# Altium footprint library MCU^MPU.PcbLib: 7 footprints
Each footprint in its own frame and in the unit in brackets; x right, y up, seen from the top. Pads: shape width x height; smd on the part's side, far side on the other; paste and mask are expansions set on the pad; w line width, h text height; cw(c..) or ccw(c..) is an arc to the next point about the centre after c.
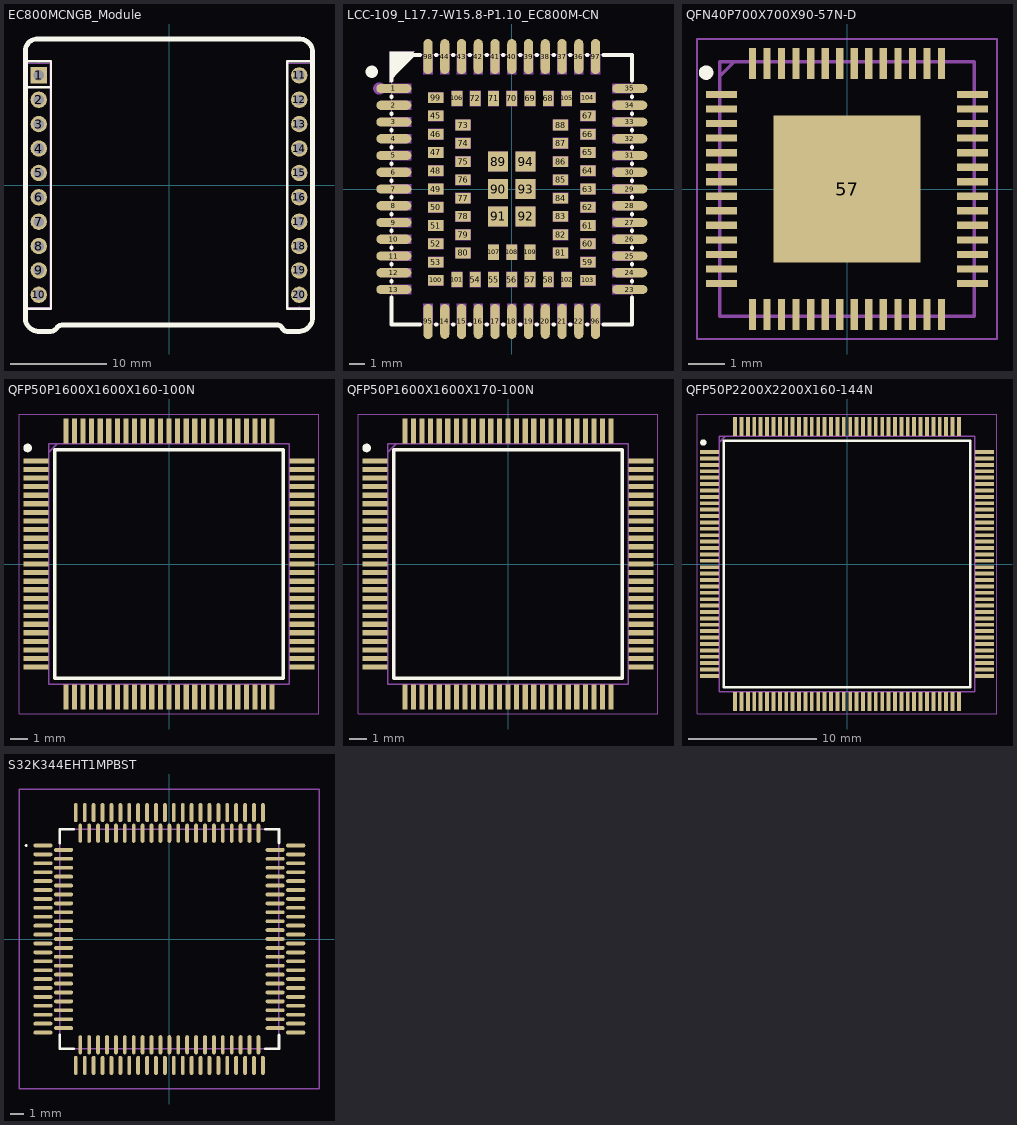
[diagram p0: the footprints below, top view; thin cyan lines are the x and y axes]

## EC800MCNGB_Module [mm]
pads (20):
  rect 1.7x1.7 hole 1.1 mask-2539.97: 1(-13.564,11.43)
  round 1.7 hole 1.1 mask-2539.97: 2(-13.564,8.89) 3(-13.564,6.35) 4(-13.564,3.81) 5(-13.564,1.27) 6(-13.564,-1.27) 7(-13.564,-3.81) 8(-13.564,-6.35) 9(-13.564,-8.89) 10(-13.564,-11.43) 11(13.564,11.43) 12(13.564,8.89) 13(13.564,6.35) 14(13.564,3.81) 15(13.564,1.27) 16(13.564,-1.27) 17(13.564,-3.81) 18(13.564,-6.35) 19(13.564,-8.89) 20(13.564,-11.43)
Top Overlay:
  lines w0.254: -14.834,-12.954 -14.834,12.9 -12.294,12.9 -12.294,-12.9 -14.834,-12.9 ; -14.834,10.169 -12.294,10.169 ; 14.834,12.9 12.294,12.9 12.294,-12.9 14.834,-12.9 14.834,12.954
  lines w0.508: -14.961,-13.741 ccw(c-13.564,-13.843) -13.665,-15.24 -12.345,-15.24 -12.324,-15.24 ccw(c-12.345,-14.473) -11.69,-14.872 -11.689,-14.861 cw(c-11.112,-15.304) -11.049,-14.58 11.273,-14.58 cw(c11.304,-15.105) 11.783,-14.886 11.782,-14.887 ccw(c12.345,-14.621) 12.277,-15.24 13.589,-15.24 ccw(c13.525,-13.805) 14.961,-13.741 14.961,13.792 ccw(c13.589,13.843) 13.64,15.215 -13.792,15.215 ccw(c-13.741,13.995) -14.961,13.945 -14.961,-13.741
Top Solder:
  circle w0.889: c13.564,11.43 r0.445
  circle w0.889: c13.564,-8.89 r0.445
  circle w0.889: c13.564,-6.35 r0.445
  circle w0.889: c13.564,-3.81 r0.445
  circle w0.889: c13.564,-1.27 r0.445
  circle w0.889: c13.564,1.27 r0.445
  circle w0.889: c13.564,3.81 r0.445
  circle w0.889: c13.564,6.35 r0.445
  circle w0.889: c13.564,8.89 r0.445
  circle w0.889: c13.564,-11.43 r0.445
  circle w0.889: c-13.564,8.89 r0.445
  circle w0.889: c-13.564,6.35 r0.445
  circle w0.889: c-13.564,3.81 r0.445
  circle w0.889: c-13.564,1.27 r0.445
  circle w0.889: c-13.564,-1.27 r0.445
  circle w0.889: c-13.564,-3.81 r0.445
  circle w0.889: c-13.564,-6.35 r0.445
  circle w0.889: c-13.564,-8.89 r0.445
  circle w0.889: c-13.564,-11.43 r0.445
  region: -14.453,10.541 -14.453,12.319 -12.675,12.319 -12.675,10.541
Bottom Solder:
  circle w0.889: c13.564,11.43 r0.445
  circle w0.889: c13.564,-8.89 r0.445
  circle w0.889: c13.564,-6.35 r0.445
  circle w0.889: c13.564,-3.81 r0.445
  circle w0.889: c13.564,-1.27 r0.445
  circle w0.889: c13.564,1.27 r0.445
  circle w0.889: c13.564,3.81 r0.445
  circle w0.889: c13.564,6.35 r0.445
  circle w0.889: c13.564,8.89 r0.445
  circle w0.889: c13.564,-11.43 r0.445
  circle w0.889: c-13.564,8.89 r0.445
  circle w0.889: c-13.564,6.35 r0.445
  circle w0.889: c-13.564,3.81 r0.445
  circle w0.889: c-13.564,1.27 r0.445
  circle w0.889: c-13.564,-1.27 r0.445
  circle w0.889: c-13.564,-3.81 r0.445
  circle w0.889: c-13.564,-6.35 r0.445
  circle w0.889: c-13.564,-8.89 r0.445
  circle w0.889: c-13.564,-11.43 r0.445
  region: -14.453,10.541 -14.453,12.319 -12.675,12.319 -12.675,10.541
Mechanical 15:
  region: 13.764,-11.75 13.364,-11.75 13.364,-11.11 13.764,-11.11
  region: 13.364,-9.21 13.364,-8.57 13.764,-8.57 13.764,-9.21
  region: 13.364,-6.67 13.364,-6.03 13.764,-6.03 13.764,-6.67
  region: 13.364,-4.13 13.364,-3.49 13.764,-3.49 13.764,-4.13
  region: 13.364,-1.59 13.364,-0.95 13.764,-0.95 13.764,-1.59
  region: 13.364,0.95 13.364,1.59 13.764,1.59 13.764,0.95
  region: 13.364,3.49 13.364,4.13 13.764,4.13 13.764,3.49
  region: 13.364,6.03 13.364,6.67 13.764,6.67 13.764,6.03
  region: 13.364,8.57 13.364,9.21 13.764,9.21 13.764,8.57
  region: 13.364,11.11 13.364,11.75 13.764,11.75 13.764,11.11
  region: 13.564,-12.64 13.539,-12.64 13.504,-12.675 13.504,-12.725 13.539,-12.76 13.564,-12.76 13.588,-12.76 13.624,-12.725 13.624,-12.675 13.588,-12.64 13.564,-12.64
  region: -13.764,11.75 -13.364,11.75 -13.364,11.11 -13.764,11.11
  region: -13.364,9.21 -13.364,8.57 -13.764,8.57 -13.764,9.21
  region: -13.364,6.67 -13.364,6.03 -13.764,6.03 -13.764,6.67
  region: -13.364,4.13 -13.364,3.49 -13.764,3.49 -13.764,4.13
  region: -13.364,1.59 -13.364,0.95 -13.764,0.95 -13.764,1.59
  region: -13.364,-0.95 -13.364,-1.59 -13.764,-1.59 -13.764,-0.95
  region: -13.364,-3.49 -13.364,-4.13 -13.764,-4.13 -13.764,-3.49
  region: -13.364,-6.03 -13.364,-6.67 -13.764,-6.67 -13.764,-6.03
  region: -13.364,-8.57 -13.364,-9.21 -13.764,-9.21 -13.764,-8.57
  region: -13.364,-11.11 -13.364,-11.75 -13.764,-11.75 -13.764,-11.11
  region: -13.564,12.64 -13.539,12.64 -13.504,12.675 -13.504,12.725 -13.539,12.76 -13.564,12.76 -13.588,12.76 -13.624,12.725 -13.624,12.675 -13.588,12.64 -13.564,12.64
  lines w0.051: -14.764,-12.7 -14.764,12.7 -12.364,12.7 -12.364,-12.7 -13.564,-12.7 -14.764,-12.7 ; 12.364,-12.7 12.364,12.7 13.564,12.7 14.764,12.7 14.764,-12.7 12.364,-12.7

## LCC-109_L17.7-W15.8-P1.10_EC800M-CN [mm]
pads (109):
  oval 2.3x0.6 smd: 1(-7.75,6.6) 2(-7.75,5.5) 3(-7.75,4.4) 4(-7.75,3.3) 5(-7.75,2.2) 6(-7.75,1.1) 7(-7.75,0) 8(-7.75,-1.1) 9(-7.75,-2.2) 10(-7.75,-3.3) 11(-7.75,-4.4) 12(-7.75,-5.5) 13(-7.75,-6.6) 23(7.75,-6.6) 24(7.75,-5.5) 25(7.75,-4.4) 26(7.75,-3.3) 27(7.75,-2.2) 28(7.75,-1.1) 29(7.75,0) 30(7.75,1.1) 31(7.75,2.2) 32(7.75,3.3) 33(7.75,4.4) 34(7.75,5.5) 35(7.75,6.6)
  oval 0.6x2.3 smd: 14(-4.4,-8.7) 15(-3.3,-8.7) 16(-2.2,-8.7) 17(-1.1,-8.7) 18(0,-8.7) 19(1.1,-8.7) 20(2.2,-8.7) 21(3.3,-8.7) 22(4.4,-8.7) 36(4.4,8.7) 37(3.3,8.7) 38(2.2,8.7) 39(1.1,8.7) 40(0,8.7) 41(-1.1,8.7) 42(-2.2,8.7) 43(-3.3,8.7) 44(-4.4,8.7) 95(-5.5,-8.7) 96(5.5,-8.7) 97(5.5,8.7) 98(-5.5,8.7)
  rect 1x0.7 smd: 45(-5,4.8) 46(-5,3.6) 47(-5,2.4) 48(-5,1.2) 49(-5,0) 50(-5,-1.2) 51(-5,-2.4) 52(-5,-3.6) 53(-5,-4.8) 59(5,-4.8) 60(5,-3.6) 61(5,-2.4) 62(5,-1.2) 63(5,0) 64(5,1.2) 65(5,2.4) 66(5,3.6) 67(5,4.8) 73(-3.2,4.2) 74(-3.2,3) 75(-3.2,1.8) 76(-3.2,0.6) 77(-3.2,-0.6) 78(-3.2,-1.8) 79(-3.2,-3) 80(-3.2,-4.2) 81(3.2,-4.2) 82(3.2,-3) 83(3.2,-1.8) 84(3.2,-0.6) 85(3.2,0.6) 86(3.2,1.8) 87(3.2,3) 88(3.2,4.2) 99(-5,6) 100(-5,-6) 103(5,-6) 104(5,6)
  rect 0.7x1 smd: 54(-2.4,-5.95) 55(-1.2,-5.95) 56(0,-5.95) 57(1.2,-5.95) 58(2.4,-5.95) 68(2.4,5.95) 69(1.2,5.95) 70(0,5.95) 71(-1.2,5.95) 72(-2.4,5.95) 101(-3.6,-5.95) 102(3.6,-5.95) 105(3.6,5.95) 106(-3.6,5.95) 107(-1.2,-4.15) 108(0,-4.15) 109(1.2,-4.15)
  rect 1.3x1.3 smd: 89(-0.9,1.8) 90(-0.9,0) 91(-0.9,-1.8) 92(0.9,-1.8) 93(0.9,0) 94(0.9,1.8)
Top Overlay:
  circle w0.4: c-9.2,7.7 r0.2
  region: -6.4,9 -8,9 -8,7
  lines w0.254: -7.9,-7.131 -7.9,-8.9 -6.031,-8.9 ; -7.9,-6.069 -7.9,-6.031 ; -7.9,-4.969 -7.9,-4.931 ; -7.9,-3.869 -7.9,-3.831 ; -7.9,-2.769 -7.9,-2.731 ; -7.9,-1.669 -7.9,-1.631 ; -7.9,-0.569 -7.9,-0.531 ; -7.9,0.531 -7.9,0.569 ; -7.9,1.631 -7.9,1.669 ; -7.9,2.731 -7.9,2.769 ; -7.9,3.831 -7.9,3.869 ; -7.9,4.931 -7.9,4.969 ; -7.9,6.031 -7.9,6.069 ; -7.9,7.131 -7.9,7.4 -6.5,8.8 -6.031,8.8 ; -4.969,-8.9 -4.931,-8.9 ; -4.969,8.8 -4.931,8.8 ; -3.869,-8.9 -3.831,-8.9 ; -3.869,8.8 -3.831,8.8 ; -2.769,-8.9 -2.731,-8.9 ; -2.769,8.8 -2.731,8.8 ; -1.669,-8.9 -1.631,-8.9 ; -1.669,8.8 -1.631,8.8 ; -0.569,-8.9 -0.531,-8.9 ; -0.569,8.8 -0.531,8.8 ; 0.531,-8.9 0.569,-8.9 ; 0.531,8.8 0.569,8.8 ; 1.631,-8.9 1.669,-8.9 ; 1.631,8.8 1.669,8.8 ; 2.731,-8.9 2.769,-8.9 ; 2.731,8.8 2.769,8.8 ; 3.831,-8.9 3.869,-8.9 ; 3.831,8.8 3.869,8.8 ; 4.931,-8.9 4.969,-8.9 ; 4.931,8.8 4.969,8.8 ; 6.031,-8.9 7.9,-8.9 7.9,-7.131 ; 6.031,8.8 7.9,8.8 ; 7.9,-6.069 7.9,-6.031 ; 7.9,-4.969 7.9,-4.931 ; 7.9,-3.869 7.9,-3.831 ; 7.9,-2.769 7.9,-2.731 ; 7.9,-1.669 7.9,-1.631 ; 7.9,-0.569 7.9,-0.531 ; 7.9,0.531 7.9,0.569 ; 7.9,1.631 7.9,1.669 ; 7.9,2.731 7.9,2.769 ; 7.9,3.831 7.9,3.869 ; 7.9,4.931 7.9,4.969 ; 7.9,6.031 7.9,6.069 ; 7.9,7.131 7.9,8.7
Mechanical 6:
  circle w0.4: c-8.7,6.6 r0.2
  region: -6.4,9 -8,9 -8,7
Mechanical 15:
  drawing of 114 lines, arcs and shapes, not listed

## QFN40P700X700X90-57N-D [mm]
pads (57):
  rect 0.85x0.2 smd: 1(-3.45,2.6) 2(-3.45,2.2) 3(-3.45,1.8) 4(-3.45,1.4) 5(-3.45,1) 6(-3.45,0.6) 7(-3.45,0.2) 8(-3.45,-0.2) 9(-3.45,-0.6) 10(-3.45,-1) 11(-3.45,-1.4) 12(-3.45,-1.8) 13(-3.45,-2.2) 14(-3.45,-2.6) 29(3.45,-2.6) 30(3.45,-2.2) 31(3.45,-1.8) 32(3.45,-1.4) 33(3.45,-1) 34(3.45,-0.6) 35(3.45,-0.2) 36(3.45,0.2) 37(3.45,0.6) 38(3.45,1) 39(3.45,1.4) 40(3.45,1.8) 41(3.45,2.2) 42(3.45,2.6)
  rect 0.2x0.85 smd: 15(-2.6,-3.45) 16(-2.2,-3.45) 17(-1.8,-3.45) 18(-1.4,-3.45) 19(-1,-3.45) 20(-0.6,-3.45) 21(-0.2,-3.45) 22(0.2,-3.45) 23(0.6,-3.45) 24(1,-3.45) 25(1.4,-3.45) 26(1.8,-3.45) 27(2.2,-3.45) 28(2.6,-3.45) 43(2.6,3.45) 44(2.2,3.45) 45(1.8,3.45) 46(1.4,3.45) 47(1,3.45) 48(0.6,3.45) 49(0.2,3.45) 50(-0.2,3.45) 51(-0.6,3.45) 52(-1,3.45) 53(-1.4,3.45) 54(-1.8,3.45) 55(-2.2,3.45) 56(-2.6,3.45)
  rect 4.05x4.05 smd: 57(0,0)
Top Overlay:
  circle w0.2: c-3.875,3.2 r0.1
Mechanical 13:
  lines w0.1: -3.5,3.1 -3.1,3.5 ; -3.5,-3.5 -3.5,3.5 3.5,3.5 3.5,-3.5 -3.5,-3.5
Mechanical 15:
  lines w0.05: -4.125,-4.125 -4.125,4.125 4.125,4.125 4.125,-4.125 -4.125,-4.125
3D body "ESP32-S3FH4R2.stp": height 0.9, standoff 0, extent -3.55,-3.55 3.55,3.55

## QFP50P1600X1600X160-100N [mm]
pads (100):
  rect 1.475x0.3 smd: 1(-7.738,6) 2(-7.738,5.5) 3(-7.738,5) 4(-7.738,4.5) 5(-7.738,4) 6(-7.738,3.5) 7(-7.738,3) 8(-7.738,2.5) 9(-7.738,2) 10(-7.738,1.5) 11(-7.738,1) 12(-7.738,0.5) 13(-7.738,0) 14(-7.738,-0.5) 15(-7.738,-1) 16(-7.738,-1.5) 17(-7.738,-2) 18(-7.738,-2.5) 19(-7.738,-3) 20(-7.738,-3.5) 21(-7.738,-4) 22(-7.738,-4.5) 23(-7.738,-5) 24(-7.738,-5.5) 25(-7.738,-6) 51(7.738,-6) 52(7.738,-5.5) 53(7.738,-5) 54(7.738,-4.5) 55(7.738,-4) 56(7.738,-3.5) 57(7.738,-3) 58(7.738,-2.5) 59(7.738,-2) 60(7.738,-1.5) 61(7.738,-1) 62(7.738,-0.5) 63(7.738,0) 64(7.738,0.5) 65(7.738,1) 66(7.738,1.5) 67(7.738,2) 68(7.738,2.5) 69(7.738,3) 70(7.738,3.5) 71(7.738,4) 72(7.738,4.5) 73(7.738,5) 74(7.738,5.5) 75(7.738,6)
  rect 0.3x1.475 smd: 26(-6,-7.738) 27(-5.5,-7.738) 28(-5,-7.738) 29(-4.5,-7.738) 30(-4,-7.738) 31(-3.5,-7.738) 32(-3,-7.738) 33(-2.5,-7.738) 34(-2,-7.738) 35(-1.5,-7.738) 36(-1,-7.738) 37(-0.5,-7.738) 38(0,-7.738) 39(0.5,-7.738) 40(1,-7.738) 41(1.5,-7.738) 42(2,-7.738) 43(2.5,-7.738) 44(3,-7.738) 45(3.5,-7.738) 46(4,-7.738) 47(4.5,-7.738) 48(5,-7.738) 49(5.5,-7.738) 50(6,-7.738) 76(6,7.738) 77(5.5,7.738) 78(5,7.738) 79(4.5,7.738) 80(4,7.738) 81(3.5,7.738) 82(3,7.738) 83(2.5,7.738) 84(2,7.738) 85(1.5,7.738) 86(1,7.738) 87(0.5,7.738) 88(0,7.738) 89(-0.5,7.738) 90(-1,7.738) 91(-1.5,7.738) 92(-2,7.738) 93(-2.5,7.738) 94(-3,7.738) 95(-3.5,7.738) 96(-4,7.738) 97(-4.5,7.738) 98(-5,7.738) 99(-5.5,7.738) 100(-6,7.738)
Top Overlay:
  circle w0.25: c-8.225,6.75 r0.125
  lines w0.2: -6.65,-6.65 -6.65,6.65 6.65,6.65 6.65,-6.65 -6.65,-6.65
Mechanical 13:
  lines w0.1: -7,6.5 -6.5,7 ; -7,-7 -7,7 7,7 7,-7 -7,-7
Mechanical 15:
  lines w0.05: -8.725,-8.725 -8.725,8.725 8.725,8.725 8.725,-8.725 -8.725,-8.725
3D body "STM32H750VBT6.stp": height 1.6, standoff 0, extent -8,-8 8,8

## QFP50P1600X1600X170-100N [mm]
pads (100):
  rect 1.475x0.3 smd: 1(-7.738,6) 2(-7.738,5.5) 3(-7.738,5) 4(-7.738,4.5) 5(-7.738,4) 6(-7.738,3.5) 7(-7.738,3) 8(-7.738,2.5) 9(-7.738,2) 10(-7.738,1.5) 11(-7.738,1) 12(-7.738,0.5) 13(-7.738,0) 14(-7.738,-0.5) 15(-7.738,-1) 16(-7.738,-1.5) 17(-7.738,-2) 18(-7.738,-2.5) 19(-7.738,-3) 20(-7.738,-3.5) 21(-7.738,-4) 22(-7.738,-4.5) 23(-7.738,-5) 24(-7.738,-5.5) 25(-7.738,-6) 51(7.738,-6) 52(7.738,-5.5) 53(7.738,-5) 54(7.738,-4.5) 55(7.738,-4) 56(7.738,-3.5) 57(7.738,-3) 58(7.738,-2.5) 59(7.738,-2) 60(7.738,-1.5) 61(7.738,-1) 62(7.738,-0.5) 63(7.738,0) 64(7.738,0.5) 65(7.738,1) 66(7.738,1.5) 67(7.738,2) 68(7.738,2.5) 69(7.738,3) 70(7.738,3.5) 71(7.738,4) 72(7.738,4.5) 73(7.738,5) 74(7.738,5.5) 75(7.738,6)
  rect 0.3x1.475 smd: 26(-6,-7.738) 27(-5.5,-7.738) 28(-5,-7.738) 29(-4.5,-7.738) 30(-4,-7.738) 31(-3.5,-7.738) 32(-3,-7.738) 33(-2.5,-7.738) 34(-2,-7.738) 35(-1.5,-7.738) 36(-1,-7.738) 37(-0.5,-7.738) 38(0,-7.738) 39(0.5,-7.738) 40(1,-7.738) 41(1.5,-7.738) 42(2,-7.738) 43(2.5,-7.738) 44(3,-7.738) 45(3.5,-7.738) 46(4,-7.738) 47(4.5,-7.738) 48(5,-7.738) 49(5.5,-7.738) 50(6,-7.738) 76(6,7.738) 77(5.5,7.738) 78(5,7.738) 79(4.5,7.738) 80(4,7.738) 81(3.5,7.738) 82(3,7.738) 83(2.5,7.738) 84(2,7.738) 85(1.5,7.738) 86(1,7.738) 87(0.5,7.738) 88(0,7.738) 89(-0.5,7.738) 90(-1,7.738) 91(-1.5,7.738) 92(-2,7.738) 93(-2.5,7.738) 94(-3,7.738) 95(-3.5,7.738) 96(-4,7.738) 97(-4.5,7.738) 98(-5,7.738) 99(-5.5,7.738) 100(-6,7.738)
Top Overlay:
  circle w0.25: c-8.225,6.75 r0.125
  lines w0.2: -6.65,-6.65 6.65,-6.65 6.65,6.65 -6.65,6.65 -6.65,-6.65
Mechanical 13:
  lines w0.1: -7,6.5 -6.5,7 ; -7,-7 7,-7 7,7 -7,7 -7,-7
Mechanical 15:
  lines w0.05: -8.725,-8.725 8.725,-8.725 8.725,8.725 -8.725,8.725 -8.725,-8.725
3D body "FS32K144UAT0VLLT.stp": height 1.7, standoff 0, extent -8,-8 8,8

## QFP50P2200X2200X160-144N [mm]
pads (144):
  rect 1.475x0.3 smd: 1(-10.738,8.75) 2(-10.738,8.25) 3(-10.738,7.75) 4(-10.738,7.25) 5(-10.738,6.75) 6(-10.738,6.25) 7(-10.738,5.75) 8(-10.738,5.25) 9(-10.738,4.75) 10(-10.738,4.25) 11(-10.738,3.75) 12(-10.738,3.25) 13(-10.738,2.75) 14(-10.738,2.25) 15(-10.738,1.75) 16(-10.738,1.25) 17(-10.738,0.75) 18(-10.738,0.25) 19(-10.738,-0.25) 20(-10.738,-0.75) 21(-10.738,-1.25) 22(-10.738,-1.75) 23(-10.738,-2.25) 24(-10.738,-2.75) 25(-10.738,-3.25) 26(-10.738,-3.75) 27(-10.738,-4.25) 28(-10.738,-4.75) 29(-10.738,-5.25) 30(-10.738,-5.75) 31(-10.738,-6.25) 32(-10.738,-6.75) 33(-10.738,-7.25) 34(-10.738,-7.75) 35(-10.738,-8.25) 36(-10.738,-8.75) 73(10.738,-8.75) 74(10.738,-8.25) 75(10.738,-7.75) 76(10.738,-7.25) 77(10.738,-6.75) 78(10.738,-6.25) 79(10.738,-5.75) 80(10.738,-5.25) 81(10.738,-4.75) 82(10.738,-4.25) 83(10.738,-3.75) 84(10.738,-3.25) 85(10.738,-2.75) 86(10.738,-2.25) 87(10.738,-1.75) 88(10.738,-1.25) 89(10.738,-0.75) 90(10.738,-0.25) 91(10.738,0.25) 92(10.738,0.75) 93(10.738,1.25) 94(10.738,1.75) 95(10.738,2.25) 96(10.738,2.75) 97(10.738,3.25) 98(10.738,3.75) 99(10.738,4.25) 100(10.738,4.75) 101(10.738,5.25) 102(10.738,5.75) 103(10.738,6.25) 104(10.738,6.75) 105(10.738,7.25) 106(10.738,7.75) 107(10.738,8.25) 108(10.738,8.75)
  rect 0.3x1.475 smd: 37(-8.75,-10.738) 38(-8.25,-10.738) 39(-7.75,-10.738) 40(-7.25,-10.738) 41(-6.75,-10.738) 42(-6.25,-10.738) 43(-5.75,-10.738) 44(-5.25,-10.738) 45(-4.75,-10.738) 46(-4.25,-10.738) 47(-3.75,-10.738) 48(-3.25,-10.738) 49(-2.75,-10.738) 50(-2.25,-10.738) 51(-1.75,-10.738) 52(-1.25,-10.738) 53(-0.75,-10.738) 54(-0.25,-10.738) 55(0.25,-10.738) 56(0.75,-10.738) 57(1.25,-10.738) 58(1.75,-10.738) 59(2.25,-10.738) 60(2.75,-10.738) 61(3.25,-10.738) 62(3.75,-10.738) 63(4.25,-10.738) 64(4.75,-10.738) 65(5.25,-10.738) 66(5.75,-10.738) 67(6.25,-10.738) 68(6.75,-10.738) 69(7.25,-10.738) 70(7.75,-10.738) 71(8.25,-10.738) 72(8.75,-10.738) 109(8.75,10.738) 110(8.25,10.738) 111(7.75,10.738) 112(7.25,10.738) 113(6.75,10.738) 114(6.25,10.738) 115(5.75,10.738) 116(5.25,10.738) 117(4.75,10.738) 118(4.25,10.738) 119(3.75,10.738) 120(3.25,10.738) 121(2.75,10.738) 122(2.25,10.738) 123(1.75,10.738) 124(1.25,10.738) 125(0.75,10.738) 126(0.25,10.738) 127(-0.25,10.738) 128(-0.75,10.738) 129(-1.25,10.738) 130(-1.75,10.738) 131(-2.25,10.738) 132(-2.75,10.738) 133(-3.25,10.738) 134(-3.75,10.738) 135(-4.25,10.738) 136(-4.75,10.738) 137(-5.25,10.738) 138(-5.75,10.738) 139(-6.25,10.738) 140(-6.75,10.738) 141(-7.25,10.738) 142(-7.75,10.738) 143(-8.25,10.738) 144(-8.75,10.738)
Top Overlay:
  circle w0.25: c-11.225,9.5 r0.125
  lines w0.2: -9.65,-9.65 9.65,-9.65 9.65,9.65 -9.65,9.65 -9.65,-9.65
Mechanical 13:
  lines w0.1: -10,9.5 -9.5,10 ; -10,-10 10,-10 10,10 -10,10 -10,-10
Mechanical 15:
  lines w0.05: -11.725,-11.725 11.725,-11.725 11.725,11.725 -11.725,11.725 -11.725,-11.725
3D body "FS32K148HET0MLQT.stp": height 1.6, standoff 0, extent -11,-11 11,11

## S32K344EHT1MPBST [mm]
pads (172):
  rrect100% 1.4x0.28 smd: 1(-9.22,6.825) 2(-7.72,6.5) 3(-9.22,6.175) 4(-7.72,5.85) 5(-9.22,5.525) 6(-7.72,5.2) 7(-9.22,4.875) 8(-7.72,4.55) 9(-9.22,4.225) 10(-7.72,3.9) 11(-9.22,3.575) 12(-7.72,3.25) 13(-9.22,2.925) 14(-7.72,2.6) 15(-9.22,2.275) 16(-7.72,1.95) 17(-9.22,1.625) 18(-7.72,1.3) 19(-9.22,0.975) 20(-7.72,0.65) 21(-9.22,0.325) 22(-7.72,0) 23(-9.22,-0.325) 24(-7.72,-0.65) 25(-9.22,-0.975) 26(-7.72,-1.3) 27(-9.22,-1.625) 28(-7.72,-1.95) 29(-9.22,-2.275) 30(-7.72,-2.6) 31(-9.22,-2.925) 32(-7.72,-3.25) 33(-9.22,-3.575) 34(-7.72,-3.9) 35(-9.22,-4.225) 36(-7.72,-4.55) 37(-9.22,-4.875) 38(-7.72,-5.2) 39(-9.22,-5.525) 40(-7.72,-5.85) 41(-9.22,-6.175) 42(-7.72,-6.5) 43(-9.22,-6.825) 87(9.22,-6.825) 88(7.72,-6.5) 89(9.22,-6.175) 90(7.72,-5.85) 91(9.22,-5.525) 92(7.72,-5.2) 93(9.22,-4.875) 94(7.72,-4.55) 95(9.22,-4.225) 96(7.72,-3.9) 97(9.22,-3.575) 98(7.72,-3.25) 99(9.22,-2.925) 100(7.72,-2.6) 101(9.22,-2.275) 102(7.72,-1.95) 103(9.22,-1.625) 104(7.72,-1.3) 105(9.22,-0.975) 106(7.72,-0.65) 107(9.22,-0.325) 108(7.72,0) 109(9.22,0.325) 110(7.72,0.65) 111(9.22,0.975) 112(7.72,1.3) 113(9.22,1.625) 114(7.72,1.95) 115(9.22,2.275) 116(7.72,2.6) 117(9.22,2.925) 118(7.72,3.25) 119(9.22,3.575) 120(7.72,3.9) 121(9.22,4.225) 122(7.72,4.55) 123(9.22,4.875) 124(7.72,5.2) 125(9.22,5.525) 126(7.72,5.85) 127(9.22,6.175) 128(7.72,6.5) 129(9.22,6.825)
  rrect100% 0.28x1.4 smd: 44(-6.825,-9.22) 45(-6.5,-7.72) 46(-6.175,-9.22) 47(-5.85,-7.72) 48(-5.525,-9.22) 49(-5.2,-7.72) 50(-4.875,-9.22) 51(-4.55,-7.72) 52(-4.225,-9.22) 53(-3.9,-7.72) 54(-3.575,-9.22) 55(-3.25,-7.72) 56(-2.925,-9.22) 57(-2.6,-7.72) 58(-2.275,-9.22) 59(-1.95,-7.72) 60(-1.625,-9.22) 61(-1.3,-7.72) 62(-0.975,-9.22) 63(-0.65,-7.72) 64(-0.325,-9.22) 65(0,-7.72) 66(0.325,-9.22) 67(0.65,-7.72) 68(0.975,-9.22) 69(1.3,-7.72) 70(1.625,-9.22) 71(1.95,-7.72) 72(2.275,-9.22) 73(2.6,-7.72) 74(2.925,-9.22) 75(3.25,-7.72) 76(3.575,-9.22) 77(3.9,-7.72) 78(4.225,-9.22) 79(4.55,-7.72) 80(4.875,-9.22) 81(5.2,-7.72) 82(5.525,-9.22) 83(5.85,-7.72) 84(6.175,-9.22) 85(6.5,-7.72) 86(6.825,-9.22) 130(6.825,9.22) 131(6.5,7.72) 132(6.175,9.22) 133(5.85,7.72) 134(5.525,9.22) 135(5.2,7.72) 136(4.875,9.22) 137(4.55,7.72) 138(4.225,9.22) 139(3.9,7.72) 140(3.575,9.22) 141(3.25,7.72) 142(2.925,9.22) 143(2.6,7.72) 144(2.275,9.22) 145(1.95,7.72) 146(1.625,9.22) 147(1.3,7.72) 148(0.975,9.22) 149(0.65,7.72) 150(0.325,9.22) 151(0,7.72) 152(-0.325,9.22) 153(-0.65,7.72) 154(-0.975,9.22) 155(-1.3,7.72) 156(-1.625,9.22) 157(-1.95,7.72) 158(-2.275,9.22) 159(-2.6,7.72) 160(-2.925,9.22) 161(-3.25,7.72) 162(-3.575,9.22) 163(-3.9,7.72) 164(-4.225,9.22) 165(-4.55,7.72) 166(-4.875,9.22) 167(-5.2,7.72) 168(-5.525,9.22) 169(-5.85,7.72) 170(-6.175,9.22) 171(-6.5,7.72) 172(-6.825,9.22)
Top Overlay:
  lines w0.1: -10.5,6.825 cw(c-10.45,6.825) -10.4,6.825 cw(c-10.45,6.825) -10.5,6.825
  lines w0.2: -8,-7 -8,-8 -7,-8 ; -8,7 -8,8 -7,8 ; 7,-8 8,-8 8,-7 ; 7,8 8,8 8,7.2 8,7
Mechanical 13:
  lines w0.1: -8,-8 8,-8 8,8 -8,8 -8,-8
Mechanical 15:
  lines w0.1: -10.97,-10.92 10.92,-10.92 10.92,10.92 -10.97,10.92 -10.97,-10.92
3D body "S32K344EHT1MPBST.stp": height 1.75, standoff 0, extent -9.5,-9.5 9.5,9.5